# EAGLE library part SWITCH-DPDT-ON-OFF (library magzor)
DEPRECATED FOR NEW DESIGNS – Matlock
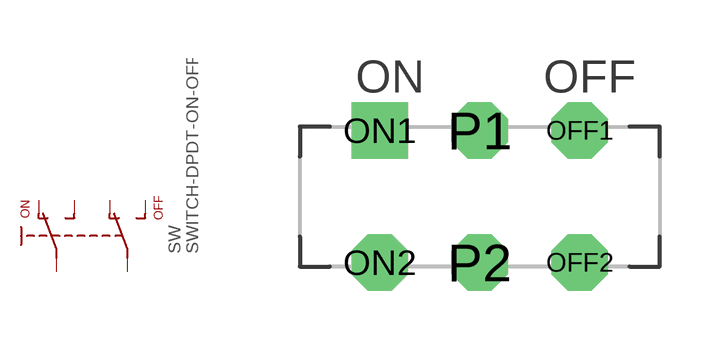
[diagram p23: symbol with the pads of JS202011CQN-ON-OFF; footprint JS202011CQN-ON-OFF]

Designator prefix SW

## SWITCH-DPDT-ON-OFF-JS202011  [JS202011CQN-ON-OFF]
OFF1  OFF1  pas
OFF2  OFF2  pas
ON1  ON1  pas
ON2  ON2  pas
P1  P1  pas
P2  P2  pas

## Footprint JS202011CQN-ON-OFF (pad centres in mm)
drill 0.9 octagon: OFF1 2.5,1.65; OFF2 2.5,-1.65; ON2 -2.5,-1.65; P1 0,1.65; P2 0,-1.65
drill 0.9 square: ON1 -2.5,1.65